# Altium schematic symbol library TEST_POINT.SchLib: 2 symbols
Pins are listed as number, name and electrical type; pins without a type are passive.

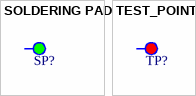
[diagram p0: symbols SOLDERING PAD to TEST_POINT]

## SOLDERING PAD
designator SP?, comment SP  (value not drawn)  (no BOM)
Soldering Pad
footprint SOLDERING PAD BIG
footprint SOLDERING PAD SMALL
footprint SOLDERING PAD BIG 2
footprint SOLDERING PAD BIG 3
pins: 1

## TEST_POINT
designator TP?, comment Test Point  (value not drawn)  (no BOM)
footprint TEST_POINT
footprint TEST_POINT Small
pins: 1